# EAGLE library part WE-DS_244117113 (library wurth_elektronik_passive_rev16d)
WE-DS D-SUB-Filter Connectors Bent 90° Characteristics Standard type filtered with 1000 pF High attenuation of more than 40 dB @ 180 MHz Low size: 6.3 mm Rated voltage: 125 VDC Rated current @ 20 ºC: 5 A Withstand voltage: 250 VRMS Insulation resistance: min. 1000 MΩ Operating temperature: –55 ºC to +125 ºC Applications Filtering of interfaces External connection to -printer -sensor -display <http://katalog.we-online.de/media/thumbs2/eisos/thb_AbsDSubFilter_SMD_pf2.jpg> Details see: http://katalog.we-online.de/en/pbs/D-SUB-Filter Bent 90° <http://katalog.we-online.de/en/pbs/Filter_SMD?sid=29b915c42a> Created on 2015-05-04 2015 (C) Wurth Elektronik
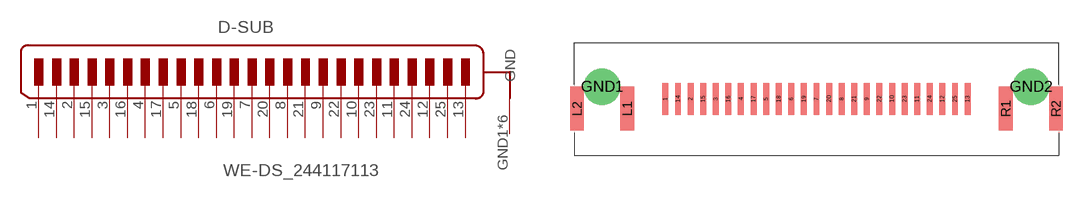
[diagram p208: symbol with the pads of WE-DS_244117113; footprint WE-DS_244117113]

Designator prefix D-SUB

## WE-DS_244117113  [WE-DS_244117113]
1  1
2  2
3  3
4  4
5  5
6  6
7  7
8  8
9  9
10  10
11  11
12  12
13  13
14  14
15  15
16  16
17  17
18  18
19  19
20  20
21  21
22  22
23  23
24  24
25  25
GND1  GND
GND2  GND
L1  GND
L2  GND
R1  GND
R2  GND

## Footprint WE-DS_244117113 (pad centres in mm)
smd 0.65 x 3.5: 1 -16.56,0.02; 2 -13.8,0.02; 3 -11.04,0.02; 4 -8.28,0.02; 5 -5.52,0.02; 6 -2.76,0.02; 7 0,0.02; 8 2.76,0.02; 9 5.52,0.02; 10 8.28,0.02; 11 11.04,0.02; 12 13.8,0.02; 13 16.56,0.02; 14 -15.18,0.02; 15 -12.42,0.02; 16 -9.66,0.02; 17 -6.9,0.02; 18 -4.14,0.02; 19 -1.38,0.02; 20 1.38,0.02; 21 4.14,0.02; 22 6.9,0.02; 23 9.66,0.02; 24 12.42,0.02; 25 15.18,0.02
drill 3 pad 3.9: GND1 -23.5,1.35; GND2 23.5,1.35
smd 1.5 x 4.8: L1 -20.75,-1.05; L2 -26.25,-1.05; R1 20.75,-1.05; R2 26.25,-1.05